# Altium footprint library AtmelSensorBoards.PcbLib: 5 footprints
Each footprint in its own frame and in the unit in brackets; x right, y up, seen from the top. Pads: shape width x height; smd on the part's side, far side on the other; paste and mask are expansions set on the pad; w line width, h text height; cw(c..) or ccw(c..) is an arc to the next point about the centre after c.
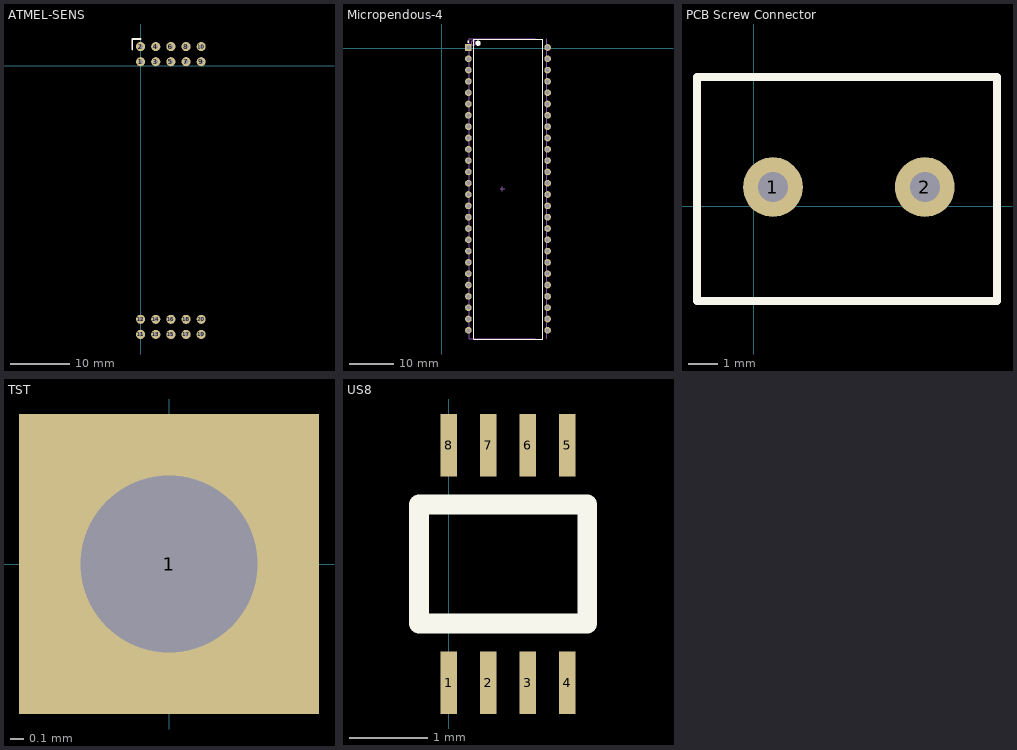
[diagram p0: the footprints below, top view; thin cyan lines are the x and y axes]

## ATMEL-SENS [mil]
pads (20):
  round 60 hole 30: 1(0,25) 2(0,125) 3(100,25) 4(100,125) 5(200,25) 6(200,125) 7(300,25) 8(300,125) 9(400,25) 10(400,125) 11(0,-1775) 12(0,-1675) 13(100,-1775) 14(100,-1675) 15(200,-1775) 16(200,-1675) 17(300,-1775) 18(300,-1675) 19(400,-1775) 20(400,-1675)
Top Overlay:
  lines w10: -55,105 -55,175 0,175
3D body: height 787.4, standoff 196.85, extent -55,-1825 445,175

## Micropendous-4 [mm]
pads (52):
  rect 1.5x1.5 hole 0.9: 1(5.988,0.138)
  round 1.5 hole 0.9: 2(5.988,-2.402) 3(5.988,-4.942) 4(5.988,-7.482) 5(5.988,-10.022) 6(5.988,-12.562) 7(5.988,-15.102) 8(5.988,-17.642) 9(5.988,-20.182) 10(5.988,-22.722) 11(5.988,-25.262) 12(5.988,-27.802) 13(5.988,-30.342) 14(5.988,-32.882) 15(5.988,-35.422) 16(5.988,-37.962) 17(5.988,-40.502) 18(5.988,-43.042) 19(5.988,-45.582) 20(5.988,-48.122) 21(5.988,-50.662) 22(5.988,-53.202) 23(5.988,-55.742) 24(5.988,-58.282) 25(5.988,-60.822) 26(5.988,-63.362) 27(23.768,-63.362) 28(23.768,-60.822) 29(23.768,-58.282) 30(23.768,-55.742) 31(23.768,-53.202) 32(23.768,-50.662) 33(23.768,-48.122) 34(23.768,-45.582) 35(23.768,-43.042) 36(23.768,-40.502) 37(23.768,-37.962) 38(23.768,-35.422) 39(23.768,-32.882) 40(23.768,-30.342) 41(23.768,-27.802) 42(23.768,-25.262) 43(23.768,-22.722) 44(23.768,-20.182) 45(23.768,-17.642) 46(23.768,-15.102) 47(23.768,-12.562) 48(23.768,-10.022) 49(23.768,-7.482) 50(23.768,-4.942) 51(23.768,-2.402) 52(23.768,0.138)
Top Overlay:
  circle w0.25: c5.988,1.438 r0.125
  circle w0.6: c8.158,1.088 r0.3
  lines w0.2: 7.158,-65.312 7.158,2.032 22.733,2.032 22.733,-65.312 7.158,-65.312
Mechanical 13:
  circle w0.1: c7.083,1.138 r0.5
  lines w0.1: 21.033,-65.262 6.183,-65.262 6.183,2.038 21.033,2.038 ; 23.573,-65.262 23.573,2.038
Mechanical 15:
  lines w0.1: 13.108,-31.612 14.108,-31.612 ; 13.608,-32.112 13.608,-31.112
3D body: height 4.45, standoff 0, extent 6.183,-65.262 23.495,2.038

## PCB Screw Connector [mm]
pads (2):
  round 2 hole 1: 1(0.635,0.635) 2(5.715,0.635)
Top Overlay:
  lines w0.254: -1.905,-3.175 -1.905,4.318 8.128,4.318 8.128,-3.175 -1.905,-3.175

## TST [mm]
pads (1):
  rect 2.2x2.2 hole 1.3: 1(0,0)

## US8 [mm]
pads (8):
  rect 0.21x0.8 smd: 1(0,-3.683) 2(0.508,-3.683) 3(1.016,-3.683) 4(1.524,-3.683) 5(1.524,-0.635) 6(1.016,-0.635) 7(0.508,-0.635) 8(0,-0.635)
Top Overlay:
  lines w0.254: -0.381,-2.921 1.778,-2.921 1.778,-1.397 -0.381,-1.397 -0.381,-2.921
  text "." at 0.127,-2.667 h1